# EAGLE library part EXPANSIONSLOT (library parts)
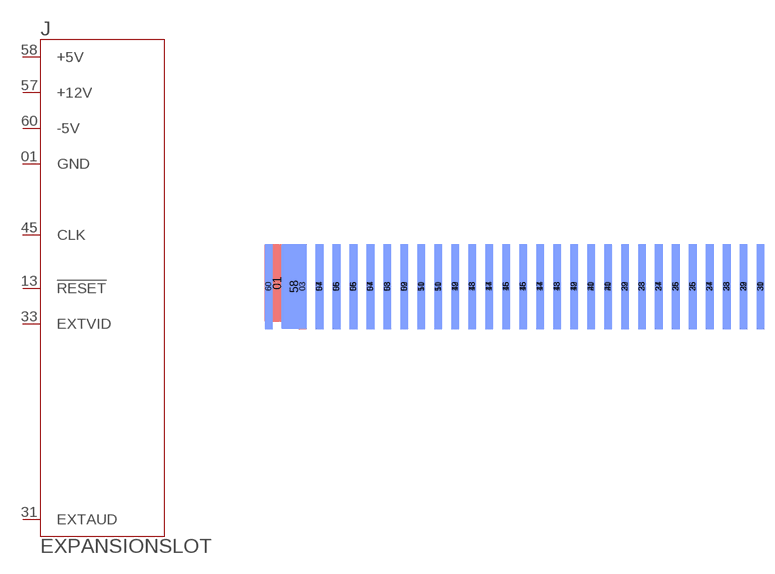
[diagram p2: symbol with the pads of EXPANSIONSLOT; footprint EXPANSIONSLOT]

Designator prefix J

## EXPANSIONSLOT  [EXPANSIONSLOT]
01  GND  pas
13  !RESET  pas
31  EXTAUD  pas
33  EXTVID  pas
45  CLK  pas
57  +12V  pas
58  +5V  pas
60  -5V  pas

## Footprint EXPANSIONSLOT (pad centres in mm)
smd 3.81 x 11.684: 01 1.905,6.858
smd 1.27 x 12.7: 03 5.715,6.35; 04 8.255,6.35; 05 10.795,6.35; 06 13.335,6.35; 07 15.875,6.35; 08 18.415,6.35; 09 20.955,6.35; 10 23.495,6.35; 11 26.035,6.35; 12 28.575,6.35; 13 31.115,6.35; 14 33.655,6.35; 15 36.195,6.35; 16 38.735,6.35; 17 41.275,6.35; 18 43.815,6.35; 19 46.355,6.35; 20 48.895,6.35; 21 51.435,6.35; 22 53.975,6.35; 23 56.515,6.35; 24 59.055,6.35; 25 61.595,6.35; 26 64.135,6.35; 27 66.675,6.35; 28 69.215,6.35; 29 71.755,6.35; 30 74.295,6.35
smd 1.27 x 12.7 bottom: 31 74.295,6.35; 32 71.755,6.35; 33 69.215,6.35; 34 66.675,6.35; 35 64.135,6.35; 36 61.595,6.35; 37 59.055,6.35; 38 56.515,6.35; 39 53.975,6.35; 40 51.435,6.35; 41 48.895,6.35; 42 46.355,6.35; 43 43.815,6.35; 44 41.275,6.35; 45 38.735,6.35; 46 36.195,6.35; 47 33.655,6.35; 48 31.115,6.35; 49 28.575,6.35; 50 26.035,6.35; 51 23.495,6.35; 52 20.955,6.35; 53 18.415,6.35; 54 15.875,6.35; 55 13.335,6.35; 56 10.795,6.35; 57 8.255,6.35; 60 0.635,6.35
smd 3.81 x 12.7 bottom: 58 4.445,6.35